# Altium footprint library bms_slave1.PcbLib: 26 footprints (part 2 of 2)
Each footprint in its own frame and in the unit in brackets; x right, y up, seen from the top. Pads: shape width x height; smd on the part's side, far side on the other; paste and mask are expansions set on the pad; w line width, h text height; cw(c..) or ccw(c..) is an arc to the next point about the centre after c.
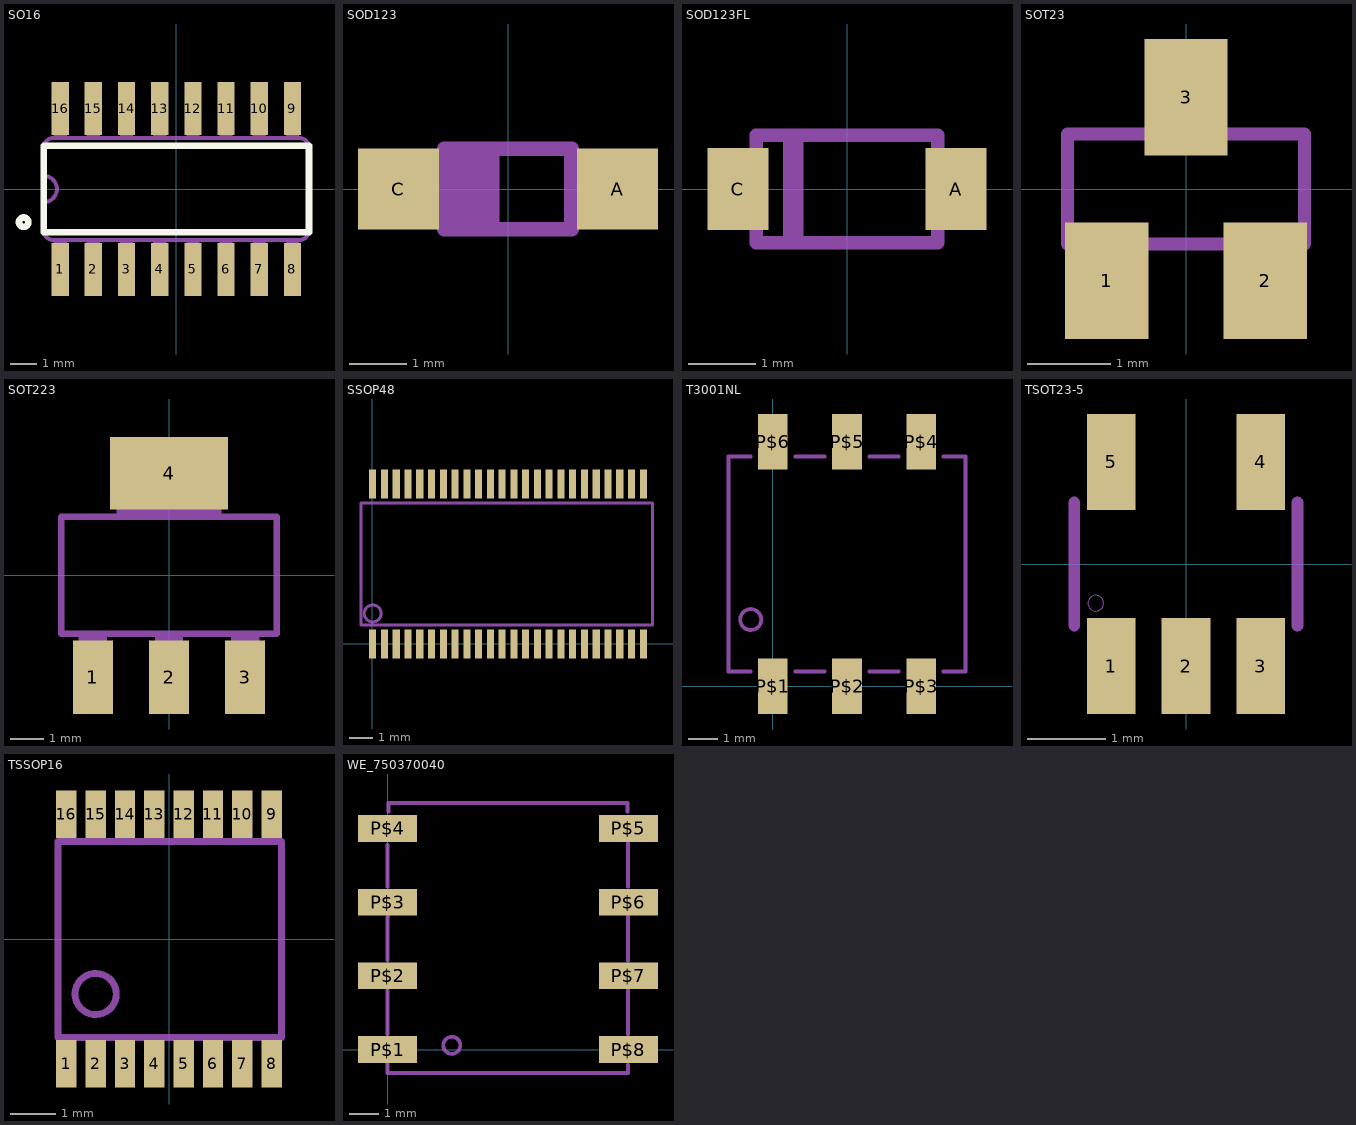
[diagram p1: the footprints below, top view; thin cyan lines are the x and y axes]

## SO16 [mil] "SO16"
pads (16):
  rect 26x80 smd: 1(-175,-121) 2(-125,-121) 3(-75,-121) 4(-25,-121) 5(25,-121) 6(75,-121) 7(125,-121) 8(175,-121) 9(175,121) 10(125,121) 11(75,121) 12(25,121) 13(-25,121) 14(-75,121) 15(-125,121) 16(-175,121)
Top Overlay:
  circle w10: c-230,-50 r7.07
  lines w10: -200,-65 200,-65 200,65 -200,65 -200,-65
Mechanical 2:
  lines w2: -200,-63 200,-63
  lines w6: -200,-20 ccw(c-200,0) -200,20 ; -200,-20 -200,20 ; -200,-20 -200,-62 ccw(c-185,-62) -185,-77 185,-77 ccw(c185,-62) 200,-62 200,62 ccw(c185,62) 185,77 -185,77 ccw(c-185,62) -200,62 -200,20
Mechanical 16:
  rectangle: -35,77 -15,122
  rectangle: -185,-122 -165,-77
  rectangle: -135,-122 -115,-77
  rectangle: -85,-121 -65,-76
  rectangle: -35,-122 -15,-77
  rectangle: -85,77 -65,122
  rectangle: -135,77 -115,122
  rectangle: -185,77 -165,122
  rectangle: 15,-122 35,-77
  rectangle: 65,-122 85,-77
  rectangle: 115,-122 135,-77
  rectangle: 165,-122 185,-77
  rectangle: 15,77 35,122
  rectangle: 65,77 85,122
  rectangle: 115,77 135,122
  rectangle: 165,77 185,122

## SOD123 [mil] "SOD123"
pads (2):
  rect 55.12x55.12 smd: A(74.8,0) C(-74.8,0)
Mechanical 16:
  rectangle: -76.77,-17.72 -47.24,15.75
  rectangle: 47.24,-17.72 76.77,15.75
  rectangle: -41.34,-25.59 -5.91,27.56
  lines w10: -43.31,-27.56 43.31,-27.56 43.31,27.56 -43.31,27.56 -43.31,-27.56

## SOD123FL [mil] "SOD123FL"
pads (2):
  rect 35.83x48.03 smd: A(63.98,0) C(-63.98,0)
Mechanical 2:
  rectangle: -37.4,-30.51 -25.59,31.5
  lines w8: -33.46,-31.5 33.46,-31.5 ; -33.46,31.5 33.46,31.5
Mechanical 16:
  region: 70.87,21.65 56.1,21.65 56.1,-21.65 70.87,-21.65
  rectangle: -70.87,-21.65 -56.1,21.65
  lines w8: -53.15,-31.5 -53.15,31.5 53.15,31.5 53.15,-31.5 -53.15,-31.5

## SOT23 [mm] "SOT23"
pads (3):
  rect 1x1.4 smd: 1(-0.95,-1.1) 2(0.95,-1.1) 3(0,1.1)
Mechanical 2:
  lines w0.152: -1.422,-0.185 -1.422,0.66 -0.658,0.66 ; 0.633,0.66 1.422,0.66 1.422,-0.185
Mechanical 16:
  rectangle: -1.168,-1.295 -0.711,-0.711
  rectangle: 0.711,-1.295 1.168,-0.711
  rectangle: -0.229,0.711 0.229,1.295
  lines w0.152: -1.422,-0.66 -1.422,0.66 1.422,0.66 1.422,-0.66 -1.422,-0.66

## SOT223 [mil] "SOT223"
pads (4):
  rect 48x88 smd: 1(-91,-122) 2(0,-122) 3(91,-122)
  rect 141.73x86.61 smd: 4(0,122.01)
Mechanical 2:
  lines w8: -129,-70 129,-70 129,70 -129,70 -129,-70
  text "3" at 60.96,-138.65 h49.6
  text "4" at 96.97,131.76 h49.6
  text "1" at -124.24,-138.12 h49.6
  text "2" at -29.71,-138.49 h49.6
Mechanical 16:
  rectangle: -63,71 63,144
  rectangle: -17,-144 17,-71
  rectangle: -108,-144 -74,-71
  rectangle: 74,-144 108,-71
  rectangle: -63,71 63,144
  rectangle: -17,-144 17,-71
  rectangle: -108,-144 -74,-71
  rectangle: 74,-144 108,-71

## SSOP48 [mil] "SSOP48"
pads (48):
  rect 11.81x49.21 smd: 1(0.79,-0.39) 2(20.47,-0.39) 3(40.16,-0.39) 4(59.84,-0.39) 5(79.53,-0.39) 6(99.21,-0.39) 7(118.9,-0.39) 8(138.58,-0.39) 9(158.27,-0.39) 10(177.95,-0.39) 11(197.64,-0.39) 12(217.32,-0.39) 13(237.01,-0.39) 14(256.69,-0.39) 15(276.38,-0.39) 16(296.06,-0.39) 17(315.75,-0.39) 18(335.43,-0.39) 19(355.12,-0.39) 20(374.8,-0.39) 21(394.49,-0.39) 22(414.17,-0.39) 23(433.86,-0.39) 24(453.54,-0.39) 25(453.54,267.32) 26(433.86,267.32) 27(414.17,267.32) 28(394.49,267.32) 29(374.8,267.32) 30(355.12,267.32) 31(335.43,267.32) 32(315.75,267.32) 33(296.06,267.32) 34(276.38,267.32) 35(256.69,267.32) 36(237.01,267.32) 37(217.32,267.32) 38(197.64,267.32) 39(177.95,267.32) 40(158.27,267.32) 41(138.58,267.32) 42(118.9,267.32) 43(99.21,267.32) 44(79.53,267.32) 45(59.84,267.32) 46(40.16,267.32) 47(20.47,267.32) 48(0.79,267.32)
Mechanical 2:
  circle w5: c0.79,50.79 r14.2
  lines w5: -18.9,31.1 -18.9,235.83 469.29,235.83 469.29,31.1 -18.9,31.1

## T3001NL [mil] "T3001NL"
pads (6):
  rect 40x75 smd: P$1(0,0) P$2(100,0) P$3(200,0) P$4(200,330) P$5(100,330) P$6(0,330)
Mechanical 2:
  circle w5: c-30,90 r14.14
  lines w5: -30,20 -60,20 -60,310 -30,310 ; 30,20 70,20 ; 30,310 70,310 ; 130,20 170,20 ; 130,310 170,310 ; 230,20 260,20 260,310 230,310
  text "Pulse" at 10,220 h77.5

## TSOT23-5 [mm] "TSOT23-5"
pads (5):
  rect 0.62x1.22 smd: 1(-0.95,-1.3) 2(0,-1.3) 3(0.95,-1.3) 4(0.95,1.3) 5(-0.95,1.3)
Mechanical 2:
  circle w0: c-1.15,-0.5 r0.1
  lines w0.152: -1.423,-0.781 -1.423,0.781 ; 1.422,-0.781 1.422,0.781

## TSSOP16 [mil] "TSSOP16"
pads (16):
  rect 17.72x41.34 smd mask-20.67: 1(-89.57,-108.97) 2(-63.98,-108.97) 3(-38.39,-108.97) 4(-12.8,-108.97) 5(12.8,-108.97) 6(38.39,-108.97) 7(63.98,-108.97) 8(89.57,-108.97) 9(89.57,108.97) 10(63.98,108.97) 11(38.39,108.97) 12(12.8,108.97) 13(-12.8,108.97) 14(-38.39,108.97) 15(-63.98,108.97) 16(-89.57,108.97)
Top Solder:
  rectangle: -99.41,-130.91 -79.72,-87.6
  rectangle: -73.82,-130.91 -54.13,-87.6
  rectangle: -48.23,-130.91 -28.54,-87.6
  rectangle: -22.64,-130.91 -2.95,-87.6
  rectangle: 2.95,-130.91 22.64,-87.6
  rectangle: 28.54,-130.91 48.23,-87.6
  rectangle: 54.13,-130.91 73.82,-87.6
  rectangle: 79.72,-130.91 99.41,-87.6
  region: 99.41,130.91 79.72,130.91 79.72,87.6 99.41,87.6
  region: 73.82,130.91 54.13,130.91 54.13,87.6 73.82,87.6
  region: 48.23,130.91 28.54,130.91 28.54,87.6 48.23,87.6
  region: 22.64,130.91 2.95,130.91 2.95,87.6 22.64,87.6
  region: -2.95,130.91 -22.64,130.91 -22.64,87.6 -2.95,87.6
  region: -28.54,130.91 -48.23,130.91 -48.23,87.6 -28.54,87.6
  region: -54.13,130.91 -73.82,130.91 -73.82,87.6 -54.13,87.6
  region: -79.72,130.91 -99.41,130.91 -99.41,87.6 -79.72,87.6
Mechanical 2:
  circle w6: c-64,-48 r18
  lines w6: -97.03,-85.94 -97.03,84.95 ; 98.02,-85.94 98.02,84.95
Mechanical 16:
  region: -83.66,-86.61 -95.47,-86.61 -95.47,-125.98 -83.66,-125.98
  region: -58.07,-86.61 -69.88,-86.61 -69.88,-125.98 -58.07,-125.98
  region: -32.48,-86.61 -44.29,-86.61 -44.29,-125.98 -32.48,-125.98
  region: -6.89,-86.61 -18.7,-86.61 -18.7,-125.98 -6.89,-125.98
  region: 18.7,-86.61 6.89,-86.61 6.89,-125.98 18.7,-125.98
  region: 44.29,-86.61 32.48,-86.61 32.48,-125.98 44.29,-125.98
  region: 69.88,-86.61 58.07,-86.61 58.07,-125.98 69.88,-125.98
  region: 95.47,-86.61 83.66,-86.61 83.66,-125.98 95.47,-125.98
  rectangle: 83.66,86.61 95.47,125.98
  rectangle: 58.07,86.61 69.88,125.98
  rectangle: 32.48,86.61 44.29,125.98
  rectangle: 6.89,86.61 18.7,125.98
  rectangle: -18.7,86.61 -6.89,125.98
  rectangle: -44.29,86.61 -32.48,125.98
  rectangle: -69.88,86.61 -58.07,125.98
  rectangle: -95.47,86.61 -83.66,125.98
  lines w6: -97.03,-85.94 98.02,-85.94 ; -97.03,84.95 98.02,84.95

## WE_750370040 [mm] "WE_750370040"
pads (8):
  rect 2x0.9 smd: P$1(0,0) P$2(0,2.49) P$3(0,4.98) P$4(0,7.47) P$5(8.14,7.47) P$6(8.14,4.98) P$7(8.14,2.49) P$8(8.14,0)
Mechanical 2:
  circle w0.127: c2.17,0.14 r0.288
  lines w0.127: -0.01,2 0,2 0,0.52 ; 0,-0.48 0,-0.79 8.13,-0.79 8.13,-0.52 ; 0,3.02 0,4.49 0.01,4.49 ; 0,5.51 0,6.91 ; 0.03,8.04 0.03,8.33 8.11,8.33 8.11,8.04 ; 8.13,0.52 8.13,1.99 ; 8.13,3.01 8.13,4.5 ; 8.13,5.5 8.13,6.96
  text "750370040" at 2.47,8.1 h1.97
  text "WURTH" at 4.438,8.1 h1.97